# EAGLE library part TLE5205-6 (library TABOR K1)
5-A H-Bridge for DC-Motor Applications
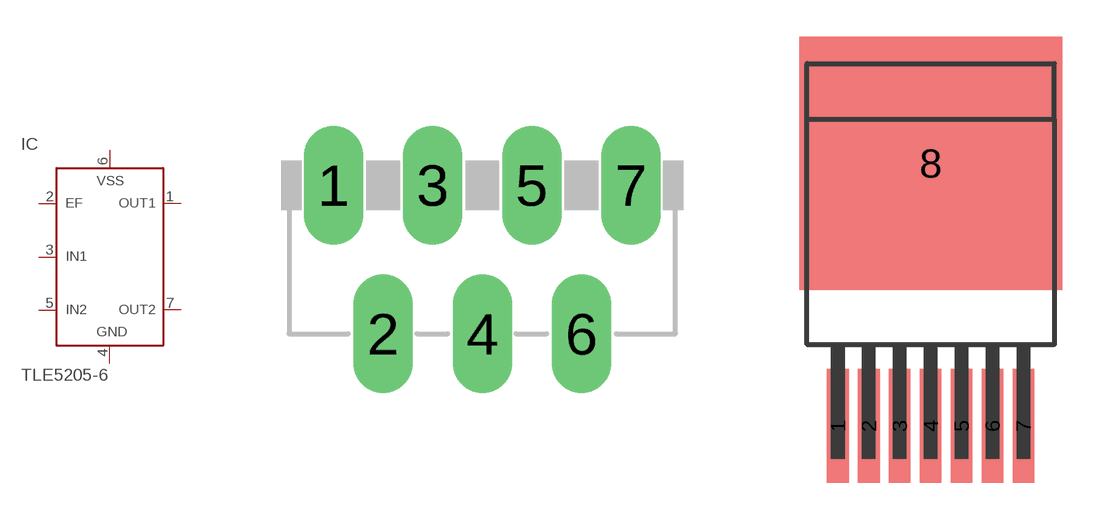
[diagram p38: symbol with the pads of TO220-7P; footprints TO220-7P, TO263-7P]

Designator prefix IC

## TLE5205-6-11  [TO220-7P]
1  OUT1  out
2  EF  oc
3  IN1  in
4  GND  pwr
5  IN2  in
6  VSS  pwr
7  OUT2  out

## TLE5205-6-1  [TO263-7P]
Pads as for TO220-7P

## Footprint TO220-7P (pad centres in mm)
Puzdro TO220-7-11 : diera s pokovenim = 0,8 mm, vrtanie = 1,0 mm
drill 1.016 pad 1.524 long: 1 -3.81,3.81; 2 -2.54,0; 3 -1.27,3.81; 4 0,0; 5 1.27,3.81; 6 2.54,0; 7 3.81,3.81

## Footprint TO263-7P (pad centres in mm)
Puzdro TO263-7-1
smd 0.889 x 4.699: 1 -3.81,-5.893; 2 -2.54,-5.893; 3 -1.27,-5.893; 4 0,-5.893; 5 1.27,-5.893; 6 2.54,-5.893; 7 3.81,-5.893
smd 10.8 x 10.41: 8 0,4.902